# Altium footprint library 6032[2413][C].PcbLib: 2 footprints
Each footprint in its own frame and in the unit in brackets; x right, y up, seen from the top. Pads: shape width x height; smd on the part's side, far side on the other; paste and mask are expansions set on the pad; w line width, h text height; cw(c..) or ccw(c..) is an arc to the next point about the centre after c.
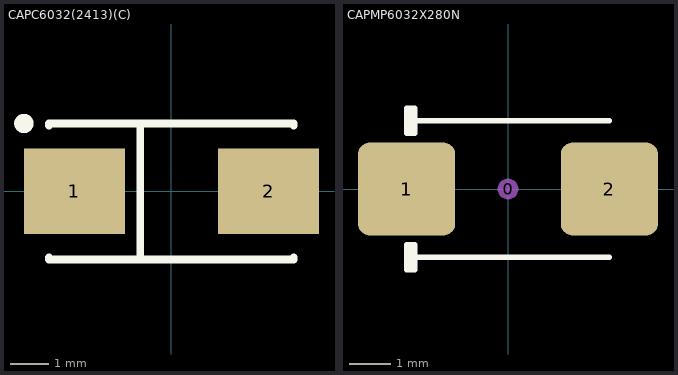
[diagram p0: the footprints below, top view; thin cyan lines are the x and y axes]

## CAPC6032(2413)(C) [mm] "Capacitor, SM Tantalum; Body 6.0 x 3.2 mm (LxW typ)"
height 2.8
pads (2):
  rect 2.6x2.2 smd: 1(-2.5,0) 2(2.5,0)
Top Overlay:
  circle w0.25: c-3.8,1.75 r0.125
  lines w0.2: -3.15,-1.7 -3.15,-1.75 3.15,-1.75 3.15,-1.7 ; -3.15,1.7 -3.15,1.75 3.15,1.75 3.15,1.7 ; -0.8,-1.75 -0.8,1.75

## CAPMP6032X280N [mm] "Capacitor, polarized, Molded Body, EIA 535BAAC size C; 6.00mm L X 3.20mm W X 2.80mm H"
height 2.8
pads (3):
  round 0.508 on Mech15: 0(0,0)
  rrect25% 2.35x2.25 smd: 1(-2.45,0) 2(2.45,0)
Top Overlay:
  lines w0.127: -2.45,-1.65 2.45,-1.65 ; -2.45,1.65 2.45,1.65 ; -2.35,-1.95 -2.35,-1.65 -2.35,-1.35 ; -2.35,1.35 -2.35,1.65 -2.35,1.95 ; -2.45,-1.95 -2.25,-1.95 -2.25,-1.65 -2.25,-1.35 -2.45,-1.35 -2.45,-1.95 ; -2.45,1.35 -2.25,1.35 -2.25,1.65 -2.25,1.95 -2.45,1.95 -2.45,1.35
3D body: height 2.8, standoff 0, extent -3,-1.6 3,1.6